# Altium integrated library Microchip PIC18.IntLib: 1897 symbols (part 101 of 110)
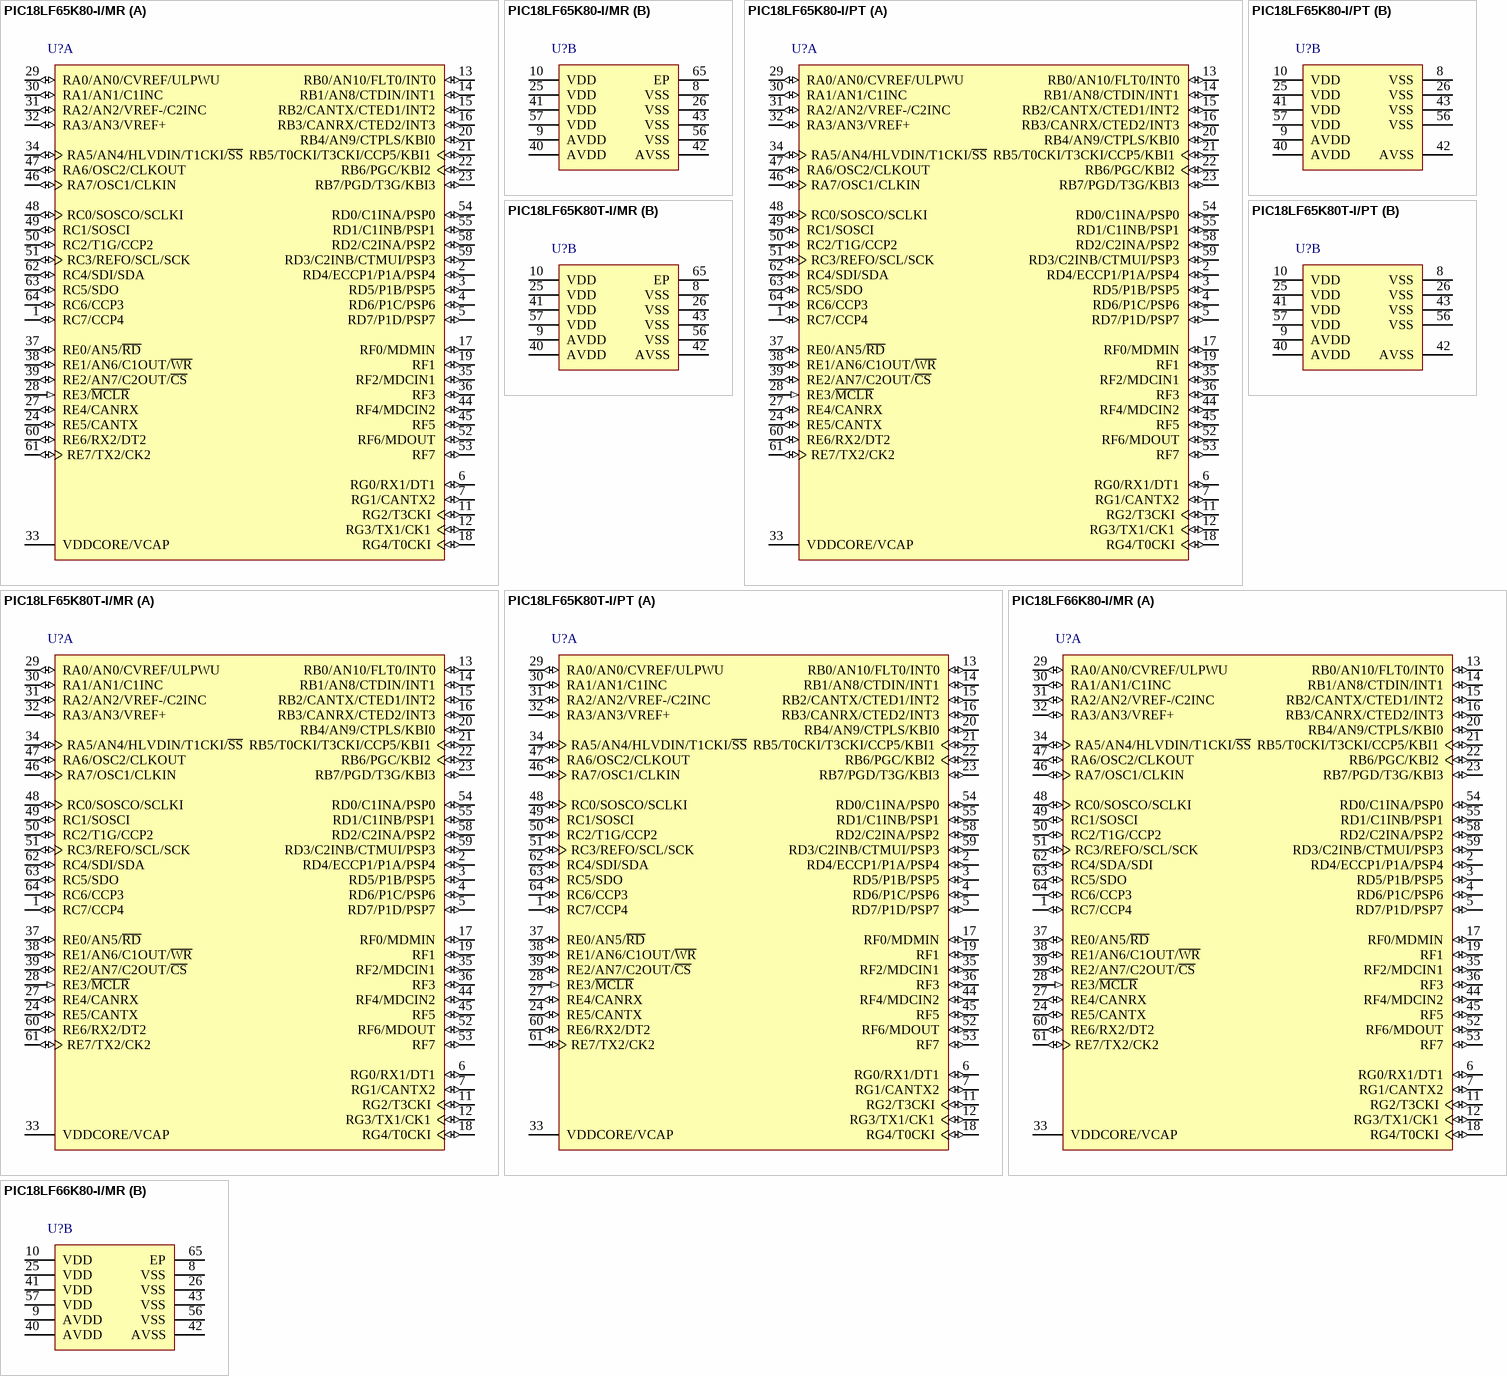
[diagram p273: symbols PIC18LF65K80-I/MR to PIC18LF66K80-I/MR]

## PIC18LF65K80-I/MR
designator U?
Enhanced Flash Microcontroller with ECAN(TM) and nanoWatt XLP Technology, 64 MHz, 54 I/O, -40 to 85 degC, 64-pin QFN (MR64), Tube; Manufacturer: Microchip; PartNumber: PIC18LF65K80-I/MR; # of A/D Channels: 11; Digital Communication: 2 -A/E/USART, 0 -MSSP(SPI/I2C), 1 -SSP(SPI/I2C); EEPROM Data Memory (bytes): 1024; I/O Pins: 54; Internal Oscillator: 16 MHz, 31 kHz; Max. CPU Speed MHz: 64; Operation Voltage Range: 1.8V - 3.6V; Program Memory KBytes: 32; Program Memory KWords: 16; RAM: 3648; Timers: 2 - 8-bit, 3 - 16-bit; DatasheetVersion: Rev. A; PackageVersion: C04-213A, 04/2013; PackageReference: QFN-MR64; PackageDescription: 64-Lead Plastic Quad Flat, No Lead Package, Body 9 x 9 mm, Pitch 0.5 mm; Supplier 1: Digi-Key; Supplier Part Number 1: PIC18LF65K80-I/MR-ND; Supplier 2: Farnell; Supplier Part Number 2: 1823195; Supplier 3: Newark; Supplier Part Number 3: 24W6631; Supplier 4: Mouser; Supplier Part Number 4: 579-PIC18LF65K80I/MR; Memory Type: Flash; Packing: TUBE; Mounting Technology: Surface Mount; ComponentLink1Description: Datasheet; ComponentLink1URL: http://ww1.microchip.com/downloads/en/DeviceDoc/39977f.pdf; ComponentLink2Description: Package Specification; ComponentLink2URL: http://www.microchip.com/stellent/groups/techpub_sg/documents/packagingspec/en012702.pdf; ComponentLink3Description: URL Link1; ComponentLink3URL: Product URL:http://www.microchip.com/datasheet/PIC18F65K80
footprint MCHP-QFN-MR64-7700X7700TP_N (QFN, 64-Leads, Body 9x9mm, Pitch 0.5mm, Thermal Pad 7.7x7.7mm, IPC Medium Density)
footprint MCHP-QFN-MR64-7700X7700TP_L (QFN, 64-Leads, Body 9x9mm, Pitch 0.5mm, Thermal Pad 7.7x7.7mm, IPC High Density)
footprint MCHP-QFN-MR64-7700X7700TP_M (QFN, 64-Leads, Body 9x9mm, Pitch 0.5mm, Thermal Pad 7.7x7.7mm, IPC Low Density)
part A pins: 1 RC7/CCP4 (io), 2 RD4/ECCP1/P1A/PSP4 (io), 3 RD5/P1B/PSP5 (io), 4 RD6/P1C/PSP6 (io), 5 RD7/P1D/PSP7 (io), 6 RG0/RX1/DT1 (io), 7 RG1/CANTX2 (io), 11 RG2/T3CKI (io), 12 RG3/TX1/CK1 (io), 13 RB0/AN10/FLT0/INT0 (io), 14 RB1/AN8/CTDIN/INT1 (io), 15 RB2/CANTX/CTED1/INT2 (io), 16 RB3/CANRX/CTED2/INT3 (io), 17 RF0/MDMIN (io), 18 RG4/T0CKI (io), 19 RF1 (io) "PORTF is a bidirectional I/O port. Digital I/O.", 20 RB4/AN9/CTPLS/KBI0 (io), 21 RB5/T0CKI/T3CKI/CCP5/KBI1 (io), 22 RB6/PGC/KBI2 (io), 23 RB7/PGD/T3G/KBI3 (io), 24 RE5/CANTX (io), 27 RE4/CANRX (io), 28 RE3/~{MCLR} (in), 29 RA0/AN0/CVREF/ULPWU (io), 30 RA1/AN1/C1INC (io), 31 RA2/AN2/VREF-/C2INC (io), 32 RA3/AN3/VREF+ (io), 33 VDDCORE/VCAP (power), 34 RA5/AN4/HLVDIN/T1CKI/~{SS} (io), 35 RF2/MDCIN1 (io), 36 RF3 (io) "PORTF is a bidirectional I/O port. Digital I/O.", 37 RE0/AN5/~{RD} (io), 38 RE1/AN6/C1OUT/~{WR} (io), 39 RE2/AN7/C2OUT/~{CS} (io), 44 RF4/MDCIN2 (io), 45 RF5 (io) "PORTF is a bidirectional I/O port. Digital I/O.", 46 RA7/OSC1/CLKIN (io), 47 RA6/OSC2/CLKOUT (io), 48 RC0/SOSCO/SCLKI (io), 49 RC1/SOSCI (io), 50 RC2/T1G/CCP2 (io), 51 RC3/REFO/SCL/SCK (io), 52 RF6/MDOUT (io), 53 RF7 (io) "PORTF is a bidirectional I/O port. Digital I/O.", 54 RD0/C1INA/PSP0 (io), 55 RD1/C1INB/PSP1 (io), 58 RD2/C2INA/PSP2 (io), 59 RD3/C2INB/CTMUI/PSP3 (io), 60 RE6/RX2/DT2 (io), 61 RE7/TX2/CK2 (io), 62 RC4/SDI/SDA (io), 63 RC5/SDO (io), 64 RC6/CCP3 (io)
part B pins: 8 VSS (power) "Ground reference for logic and I/O pins.", 9 AVDD (power) "Positive supply for analog modules.", 10 VDD (power) "Positive supply for logic and I/O pins.", 25 VDD (power) "Positive supply for logic and I/O pins.", 26 VSS (power) "Ground reference for logic and I/O pins.", 40 AVDD (power) "Positive supply for analog modules.", 41 VDD (power) "Positive supply for logic and I/O pins.", 42 AVSS (power) "Ground reference for analog modules.", 43 VSS (power) "Ground reference for logic and I/O pins.", 56 VSS (power) "Ground reference for logic and I/O pins.", 57 VDD (power) "Positive supply for logic and I/O pins.", 65 EP (power)

## PIC18LF65K80-I/PT
designator U?
Enhanced Flash Microcontroller with ECAN(TM) and nanoWatt XLP Technology, 64 MHz, 54 I/O, -40 to 85 degC, 64-pin TQFP (PT64), Tray; Manufacturer: Microchip; PartNumber: PIC18LF65K80-I/PT; # of A/D Channels: 11; Digital Communication: 2 -A/E/USART, 0 -MSSP(SPI/I2C), 1 -SSP(SPI/I2C); EEPROM Data Memory (bytes): 1024; I/O Pins: 54; Internal Oscillator: 16 MHz, 31 kHz; Max. CPU Speed MHz: 64; Operation Voltage Range: 1.8V - 3.6V; Program Memory KBytes: 32; Program Memory KWords: 16; RAM: 3648; Timers: 2 - 8-bit, 3 - 16-bit; DatasheetVersion: Rev. A; PackageVersion: C04-085B, 12/2012; PackageReference: TQFP-PT64; PackageDescription: 64-Lead Plastic Thin Quad FlatPack, 10 x 10 mm Body, 0.5 mm Pitch; Supplier 1: Digi-Key; Supplier Part Number 1: PIC18LF65K80-I/PT-ND; Supplier 2: Mouser; Supplier Part Number 2: 579-PIC18LF65K80I/PT; Memory Type: Flash; Packing: TRAY; Mounting Technology: Surface Mount; ComponentLink1Description: Datasheet; ComponentLink1URL: http://ww1.microchip.com/downloads/en/DeviceDoc/39977f.pdf; ComponentLink2Description: Package Specification; ComponentLink2URL: http://www.microchip.com/stellent/groups/techpub_sg/documents/packagingspec/en012702.pdf; ComponentLink3Description: URL Link1; ComponentLink3URL: Product URL:http://www.microchip.com/datasheet/PIC18F65K80
footprint MCHP-TQFP-PT64_N (TQFP, 64-Leads, Body 10x10mm, Pitch 0.5mm, IPC Medium Density)
footprint MCHP-TQFP-PT64_L (TQFP, 64-Leads, Body 10x10mm, Pitch 0.5mm, IPC High Density)
footprint MCHP-TQFP-PT64_M (TQFP, 64-Leads, Body 10x10mm, Pitch 0.5mm, IPC Low Density)
part A pins: 1 RC7/CCP4 (io), 2 RD4/ECCP1/P1A/PSP4 (io), 3 RD5/P1B/PSP5 (io), 4 RD6/P1C/PSP6 (io), 5 RD7/P1D/PSP7 (io), 6 RG0/RX1/DT1 (io), 7 RG1/CANTX2 (io), 11 RG2/T3CKI (io), 12 RG3/TX1/CK1 (io), 13 RB0/AN10/FLT0/INT0 (io), 14 RB1/AN8/CTDIN/INT1 (io), 15 RB2/CANTX/CTED1/INT2 (io), 16 RB3/CANRX/CTED2/INT3 (io), 17 RF0/MDMIN (io), 18 RG4/T0CKI (io), 19 RF1 (io) "PORTF is a bidirectional I/O port. Digital I/O.", 20 RB4/AN9/CTPLS/KBI0 (io), 21 RB5/T0CKI/T3CKI/CCP5/KBI1 (io), 22 RB6/PGC/KBI2 (io), 23 RB7/PGD/T3G/KBI3 (io), 24 RE5/CANTX (io), 27 RE4/CANRX (io), 28 RE3/~{MCLR} (in), 29 RA0/AN0/CVREF/ULPWU (io), 30 RA1/AN1/C1INC (io), 31 RA2/AN2/VREF-/C2INC (io), 32 RA3/AN3/VREF+ (io), 33 VDDCORE/VCAP (power), 34 RA5/AN4/HLVDIN/T1CKI/~{SS} (io), 35 RF2/MDCIN1 (io), 36 RF3 (io) "PORTF is a bidirectional I/O port. Digital I/O.", 37 RE0/AN5/~{RD} (io), 38 RE1/AN6/C1OUT/~{WR} (io), 39 RE2/AN7/C2OUT/~{CS} (io), 44 RF4/MDCIN2 (io), 45 RF5 (io) "PORTF is a bidirectional I/O port. Digital I/O.", 46 RA7/OSC1/CLKIN (io), 47 RA6/OSC2/CLKOUT (io), 48 RC0/SOSCO/SCLKI (io), 49 RC1/SOSCI (io), 50 RC2/T1G/CCP2 (io), 51 RC3/REFO/SCL/SCK (io), 52 RF6/MDOUT (io), 53 RF7 (io) "PORTF is a bidirectional I/O port. Digital I/O.", 54 RD0/C1INA/PSP0 (io), 55 RD1/C1INB/PSP1 (io), 58 RD2/C2INA/PSP2 (io), 59 RD3/C2INB/CTMUI/PSP3 (io), 60 RE6/RX2/DT2 (io), 61 RE7/TX2/CK2 (io), 62 RC4/SDI/SDA (io), 63 RC5/SDO (io), 64 RC6/CCP3 (io)
part B pins: 8 VSS (power) "Ground reference for logic and I/O pins.", 9 AVDD (power) "Positive supply for analog modules.", 10 VDD (power) "Positive supply for logic and I/O pins.", 25 VDD (power) "Positive supply for logic and I/O pins.", 26 VSS (power) "Ground reference for logic and I/O pins.", 40 AVDD (power) "Positive supply for analog modules.", 41 VDD (power) "Positive supply for logic and I/O pins.", 42 AVSS (power) "Ground reference for analog modules.", 43 VSS (power) "Ground reference for logic and I/O pins.", 56 VSS (power) "Ground reference for logic and I/O pins.", 57 VDD (power) "Positive supply for logic and I/O pins."

## PIC18LF65K80T-I/MR
designator U?
Enhanced Flash Microcontroller with ECAN(TM) and nanoWatt XLP Technology, 64 MHz, 54 I/O, -40 to 85 degC, 64-pin QFN (MR64), Tape and Reel; Manufacturer: Microchip; PartNumber: PIC18LF65K80T-I/MR; # of A/D Channels: 11; Digital Communication: 2 -A/E/USART, 0 -MSSP(SPI/I2C), 1 -SSP(SPI/I2C); EEPROM Data Memory (bytes): 1024; I/O Pins: 54; Internal Oscillator: 16 MHz, 31 kHz; Max. CPU Speed MHz: 64; Operation Voltage Range: 1.8V - 3.6V; Packing: T/R; Program Memory KBytes: 32; Program Memory KWords: 16; RAM: 3648; Timers: 2 - 8-bit, 3 - 16-bit; DatasheetVersion: Rev. A; PackageVersion: C04-149C, 12/2012; PackageReference: QFN-MR64; PackageDescription: 64-Lead Plastic Quad Flat, 9 x 9 mm Body, 0.5 mm Pitch; Supplier 1: Digi-Key; Supplier Part Number 1: PIC18LF65K80T-I/MR-ND; Supplier 2: Mouser; Supplier Part Number 2: 579-PIC18LF65K80TIMR; Memory Type: Flash; Mounting Technology: Surface Mount; ComponentLink1Description: Datasheet; ComponentLink1URL: http://ww1.microchip.com/downloads/en/DeviceDoc/39977f.pdf; ComponentLink2Description: Package Specification; ComponentLink2URL: http://www.microchip.com/stellent/groups/techpub_sg/documents/packagingspec/en012702.pdf; ComponentLink3Description: URL Link1; ComponentLink3URL: Product URL:http://www.microchip.com/datasheet/PIC18F65K80
footprint MCHP-QFN-MR64-7275X7275TP_N (QFN, 64-Leads, Body 9x9mm, Pitch 0.5mm, Thermal Pad 7.275x7.275mm, IPC Medium Density)
footprint MCHP-QFN-MR64-7275X7275TP_L (QFN, 64-Leads, Body 9x9mm, Pitch 0.5mm, Thermal Pad 7.275x7.275mm, IPC High Density)
footprint MCHP-QFN-MR64-7275X7275TP_M (QFN, 64-Leads, Body 9x9mm, Pitch 0.5mm, Thermal Pad 7.275x7.275mm, IPC Low Density)
part A pins: 1 RC7/CCP4 (io), 2 RD4/ECCP1/P1A/PSP4 (io), 3 RD5/P1B/PSP5 (io), 4 RD6/P1C/PSP6 (io), 5 RD7/P1D/PSP7 (io), 6 RG0/RX1/DT1 (io), 7 RG1/CANTX2 (io), 11 RG2/T3CKI (io), 12 RG3/TX1/CK1 (io), 13 RB0/AN10/FLT0/INT0 (io), 14 RB1/AN8/CTDIN/INT1 (io), 15 RB2/CANTX/CTED1/INT2 (io), 16 RB3/CANRX/CTED2/INT3 (io), 17 RF0/MDMIN (io), 18 RG4/T0CKI (io), 19 RF1 (io) "PORTF is a bidirectional I/O port. Digital I/O.", 20 RB4/AN9/CTPLS/KBI0 (io), 21 RB5/T0CKI/T3CKI/CCP5/KBI1 (io), 22 RB6/PGC/KBI2 (io), 23 RB7/PGD/T3G/KBI3 (io), 24 RE5/CANTX (io), 27 RE4/CANRX (io), 28 RE3/~{MCLR} (in), 29 RA0/AN0/CVREF/ULPWU (io), 30 RA1/AN1/C1INC (io), 31 RA2/AN2/VREF-/C2INC (io), 32 RA3/AN3/VREF+ (io), 33 VDDCORE/VCAP (power), 34 RA5/AN4/HLVDIN/T1CKI/~{SS} (io), 35 RF2/MDCIN1 (io), 36 RF3 (io) "PORTF is a bidirectional I/O port. Digital I/O.", 37 RE0/AN5/~{RD} (io), 38 RE1/AN6/C1OUT/~{WR} (io), 39 RE2/AN7/C2OUT/~{CS} (io), 44 RF4/MDCIN2 (io), 45 RF5 (io) "PORTF is a bidirectional I/O port. Digital I/O.", 46 RA7/OSC1/CLKIN (io), 47 RA6/OSC2/CLKOUT (io), 48 RC0/SOSCO/SCLKI (io), 49 RC1/SOSCI (io), 50 RC2/T1G/CCP2 (io), 51 RC3/REFO/SCL/SCK (io), 52 RF6/MDOUT (io), 53 RF7 (io) "PORTF is a bidirectional I/O port. Digital I/O.", 54 RD0/C1INA/PSP0 (io), 55 RD1/C1INB/PSP1 (io), 58 RD2/C2INA/PSP2 (io), 59 RD3/C2INB/CTMUI/PSP3 (io), 60 RE6/RX2/DT2 (io), 61 RE7/TX2/CK2 (io), 62 RC4/SDI/SDA (io), 63 RC5/SDO (io), 64 RC6/CCP3 (io)
part B pins: 8 VSS (power) "Ground reference for logic and I/O pins.", 9 AVDD (power) "Positive supply for analog modules.", 10 VDD (power) "Positive supply for logic and I/O pins.", 25 VDD (power) "Positive supply for logic and I/O pins.", 26 VSS (power) "Ground reference for logic and I/O pins.", 40 AVDD (power) "Positive supply for analog modules.", 41 VDD (power) "Positive supply for logic and I/O pins.", 42 AVSS (power) "Ground reference for analog modules.", 43 VSS (power) "Ground reference for logic and I/O pins.", 56 VSS (power) "Ground reference for logic and I/O pins.", 57 VDD (power) "Positive supply for logic and I/O pins.", 65 EP (power)

## PIC18LF65K80T-I/PT
designator U?
Enhanced Flash Microcontroller with ECAN(TM) and nanoWatt XLP Technology, 64 MHz, 54 I/O, -40 to 85 degC, 64-pin TQFP (PT64), Tape and Reel; Manufacturer: Microchip; PartNumber: PIC18LF65K80T-I/PT; # of A/D Channels: 11; Digital Communication: 2 -A/E/USART, 0 -MSSP(SPI/I2C), 1 -SSP(SPI/I2C); EEPROM Data Memory (bytes): 1024; I/O Pins: 54; Internal Oscillator: 16 MHz, 31 kHz; Max. CPU Speed MHz: 64; Operation Voltage Range: 1.8V - 3.6V; Packing: T/R; Program Memory KBytes: 32; Program Memory KWords: 16; RAM: 3648; Timers: 2 - 8-bit, 3 - 16-bit; DatasheetVersion: Rev. A; PackageVersion: C04-085B, 12/2012; PackageReference: TQFP-PT64; PackageDescription: 64-Lead Plastic Thin Quad FlatPack, 10 x 10 mm Body, 0.5 mm Pitch; Supplier 1: Digi-Key; Supplier Part Number 1: PIC18LF65K80T-I/PT-ND; Supplier 2: Mouser; Supplier Part Number 2: 579-PIC18LF65K80TIPT; Memory Type: Flash; Mounting Technology: Surface Mount; ComponentLink1Description: Datasheet; ComponentLink1URL: http://ww1.microchip.com/downloads/en/DeviceDoc/39977f.pdf; ComponentLink2Description: Package Specification; ComponentLink2URL: http://www.microchip.com/stellent/groups/techpub_sg/documents/packagingspec/en012702.pdf; ComponentLink3Description: URL Link1; ComponentLink3URL: Product URL:http://www.microchip.com/datasheet/PIC18F65K80
footprint MCHP-TQFP-PT64_N (TQFP, 64-Leads, Body 10x10mm, Pitch 0.5mm, IPC Medium Density)
footprint MCHP-TQFP-PT64_L (TQFP, 64-Leads, Body 10x10mm, Pitch 0.5mm, IPC High Density)
footprint MCHP-TQFP-PT64_M (TQFP, 64-Leads, Body 10x10mm, Pitch 0.5mm, IPC Low Density)
part A pins: 1 RC7/CCP4 (io), 2 RD4/ECCP1/P1A/PSP4 (io), 3 RD5/P1B/PSP5 (io), 4 RD6/P1C/PSP6 (io), 5 RD7/P1D/PSP7 (io), 6 RG0/RX1/DT1 (io), 7 RG1/CANTX2 (io), 11 RG2/T3CKI (io), 12 RG3/TX1/CK1 (io), 13 RB0/AN10/FLT0/INT0 (io), 14 RB1/AN8/CTDIN/INT1 (io), 15 RB2/CANTX/CTED1/INT2 (io), 16 RB3/CANRX/CTED2/INT3 (io), 17 RF0/MDMIN (io), 18 RG4/T0CKI (io), 19 RF1 (io) "PORTF is a bidirectional I/O port. Digital I/O.", 20 RB4/AN9/CTPLS/KBI0 (io), 21 RB5/T0CKI/T3CKI/CCP5/KBI1 (io), 22 RB6/PGC/KBI2 (io), 23 RB7/PGD/T3G/KBI3 (io), 24 RE5/CANTX (io), 27 RE4/CANRX (io), 28 RE3/~{MCLR} (in), 29 RA0/AN0/CVREF/ULPWU (io), 30 RA1/AN1/C1INC (io), 31 RA2/AN2/VREF-/C2INC (io), 32 RA3/AN3/VREF+ (io), 33 VDDCORE/VCAP (power), 34 RA5/AN4/HLVDIN/T1CKI/~{SS} (io), 35 RF2/MDCIN1 (io), 36 RF3 (io) "PORTF is a bidirectional I/O port. Digital I/O.", 37 RE0/AN5/~{RD} (io), 38 RE1/AN6/C1OUT/~{WR} (io), 39 RE2/AN7/C2OUT/~{CS} (io), 44 RF4/MDCIN2 (io), 45 RF5 (io) "PORTF is a bidirectional I/O port. Digital I/O.", 46 RA7/OSC1/CLKIN (io), 47 RA6/OSC2/CLKOUT (io), 48 RC0/SOSCO/SCLKI (io), 49 RC1/SOSCI (io), 50 RC2/T1G/CCP2 (io), 51 RC3/REFO/SCL/SCK (io), 52 RF6/MDOUT (io), 53 RF7 (io) "PORTF is a bidirectional I/O port. Digital I/O.", 54 RD0/C1INA/PSP0 (io), 55 RD1/C1INB/PSP1 (io), 58 RD2/C2INA/PSP2 (io), 59 RD3/C2INB/CTMUI/PSP3 (io), 60 RE6/RX2/DT2 (io), 61 RE7/TX2/CK2 (io), 62 RC4/SDI/SDA (io), 63 RC5/SDO (io), 64 RC6/CCP3 (io)
part B pins: 8 VSS (power) "Ground reference for logic and I/O pins.", 9 AVDD (power) "Positive supply for analog modules.", 10 VDD (power) "Positive supply for logic and I/O pins.", 25 VDD (power) "Positive supply for logic and I/O pins.", 26 VSS (power) "Ground reference for logic and I/O pins.", 40 AVDD (power) "Positive supply for analog modules.", 41 VDD (power) "Positive supply for logic and I/O pins.", 42 AVSS (power) "Ground reference for analog modules.", 43 VSS (power) "Ground reference for logic and I/O pins.", 56 VSS (power) "Ground reference for logic and I/O pins.", 57 VDD (power) "Positive supply for logic and I/O pins."

## PIC18LF66K80-I/MR
designator U?
Enhanced Flash Microcontroller with ECAN(TM) and nanoWatt XLP Technology, 64 MHz, 54 I/O, -40 to 85 degC, 64-pin QFN (MR64), Tube; Manufacturer: Microchip; PartNumber: PIC18LF66K80-I/MR; # of A/D Channels: 11; Digital Communication: 2 -A/E/USART, 1 -MSSP(SPI/I2C); EEPROM Data Memory (bytes): 1024; I/O Pins: 54; Internal Oscillator: 16 MHz, 31 kHz; Max. CPU Speed MHz: 64; Operation Voltage Range: 1.8V - 3.6V; Program Memory KWords: 32; RAM: 3648; Timers: 2 - 8-bit, 3 - 16-bit; DatasheetVersion: Rev. F; PackageVersion: C04-149C, 12/2012; PackageReference: QFN-MR64; PackageDescription: 64-Lead Plastic Quad Flat, 9 x 9 mm Body, 0.5 mm Pitch; Supplier 1: Digi-Key; Supplier Part Number 1: PIC18LF66K80-I/MR-ND; Supplier 2: Farnell; Supplier Part Number 2: 1823197; Supplier 3: Newark; Supplier Part Number 3: 24W6632; Supplier 4: Newark; Supplier Part Number 4: 76R6747; Supplier 5: Mouser; Supplier Part Number 5: 579-PIC18LF66K80I/MR; Memory Type: Flash; Packing: TUBE; Program Memory KBytes: 64; Mounting Technology: Surface Mount; ComponentLink1Description: Datasheet; ComponentLink1URL: http://ww1.microchip.com/downloads/en/DeviceDoc/39977f.pdf; ComponentLink2Description: Package Specification; ComponentLink2URL: http://www.microchip.com/stellent/groups/techpub_sg/documents/packagingspec/en012702.pdf; ComponentLink3Description: URL Link1; ComponentLink3URL: Product URL:http://www.microchip.com/datasheet/PIC18F66K80
footprint MCHP-QFN-MR64-7275X7275TP_N (QFN, 64-Leads, Body 9x9mm, Pitch 0.5mm, Thermal Pad 7.275x7.275mm, IPC Medium Density)
footprint MCHP-QFN-MR64-7275X7275TP_L (QFN, 64-Leads, Body 9x9mm, Pitch 0.5mm, Thermal Pad 7.275x7.275mm, IPC High Density)
footprint MCHP-QFN-MR64-7275X7275TP_M (QFN, 64-Leads, Body 9x9mm, Pitch 0.5mm, Thermal Pad 7.275x7.275mm, IPC Low Density)
part A pins: 1 RC7/CCP4 (io), 2 RD4/ECCP1/P1A/PSP4 (io), 3 RD5/P1B/PSP5 (io), 4 RD6/P1C/PSP6 (io), 5 RD7/P1D/PSP7 (io), 6 RG0/RX1/DT1 (io), 7 RG1/CANTX2 (io), 11 RG2/T3CKI (io), 12 RG3/TX1/CK1 (io), 13 RB0/AN10/FLT0/INT0 (io), 14 RB1/AN8/CTDIN/INT1 (io), 15 RB2/CANTX/CTED1/INT2 (io), 16 RB3/CANRX/CTED2/INT3 (io), 17 RF0/MDMIN (io), 18 RG4/T0CKI (io), 19 RF1 (io) "PORTF is a bidirectional I/O port. Digital I/O.", 20 RB4/AN9/CTPLS/KBI0 (io), 21 RB5/T0CKI/T3CKI/CCP5/KBI1 (io), 22 RB6/PGC/KBI2 (io), 23 RB7/PGD/T3G/KBI3 (io), 24 RE5/CANTX (io), 27 RE4/CANRX (io), 28 RE3/~{MCLR} (in), 29 RA0/AN0/CVREF/ULPWU (io), 30 RA1/AN1/C1INC (io), 31 RA2/AN2/VREF-/C2INC (io), 32 RA3/AN3/VREF+ (io), 33 VDDCORE/VCAP (power), 34 RA5/AN4/HLVDIN/T1CKI/~{SS} (io), 35 RF2/MDCIN1 (io), 36 RF3 (io) "PORTF is a bidirectional I/O port. Digital I/O.", 37 RE0/AN5/~{RD} (io), 38 RE1/AN6/C1OUT/~{WR} (io), 39 RE2/AN7/C2OUT/~{CS} (io), 44 RF4/MDCIN2 (io), 45 RF5 (io) "PORTF is a bidirectional I/O port. Digital I/O.", 46 RA7/OSC1/CLKIN (io), 47 RA6/OSC2/CLKOUT (io), 48 RC0/SOSCO/SCLKI (io), 49 RC1/SOSCI (io), 50 RC2/T1G/CCP2 (io), 51 RC3/REFO/SCL/SCK (io), 52 RF6/MDOUT (io), 53 RF7 (io) "PORTF is a bidirectional I/O port. Digital I/O.", 54 RD0/C1INA/PSP0 (io), 55 RD1/C1INB/PSP1 (io), 58 RD2/C2INA/PSP2 (io), 59 RD3/C2INB/CTMUI/PSP3 (io), 60 RE6/RX2/DT2 (io), 61 RE7/TX2/CK2 (io), 62 RC4/SDA/SDI (io), 63 RC5/SDO (io), 64 RC6/CCP3 (io)
part B pins: 8 VSS (power) "Ground reference for logic and I/O pins.", 9 AVDD (power) "Positive supply for analog modules.", 10 VDD (power) "Positive supply for logic and I/O pins.", 25 VDD (power) "Positive supply for logic and I/O pins.", 26 VSS (power) "Ground reference for logic and I/O pins.", 40 AVDD (power) "Positive supply for analog modules.", 41 VDD (power) "Positive supply for logic and I/O pins.", 42 AVSS (power) "Ground reference for analog modules.", 43 VSS (power) "Ground reference for logic and I/O pins.", 56 VSS (power) "Ground reference for logic and I/O pins.", 57 VDD (power) "Positive supply for logic and I/O pins.", 65 EP (power)

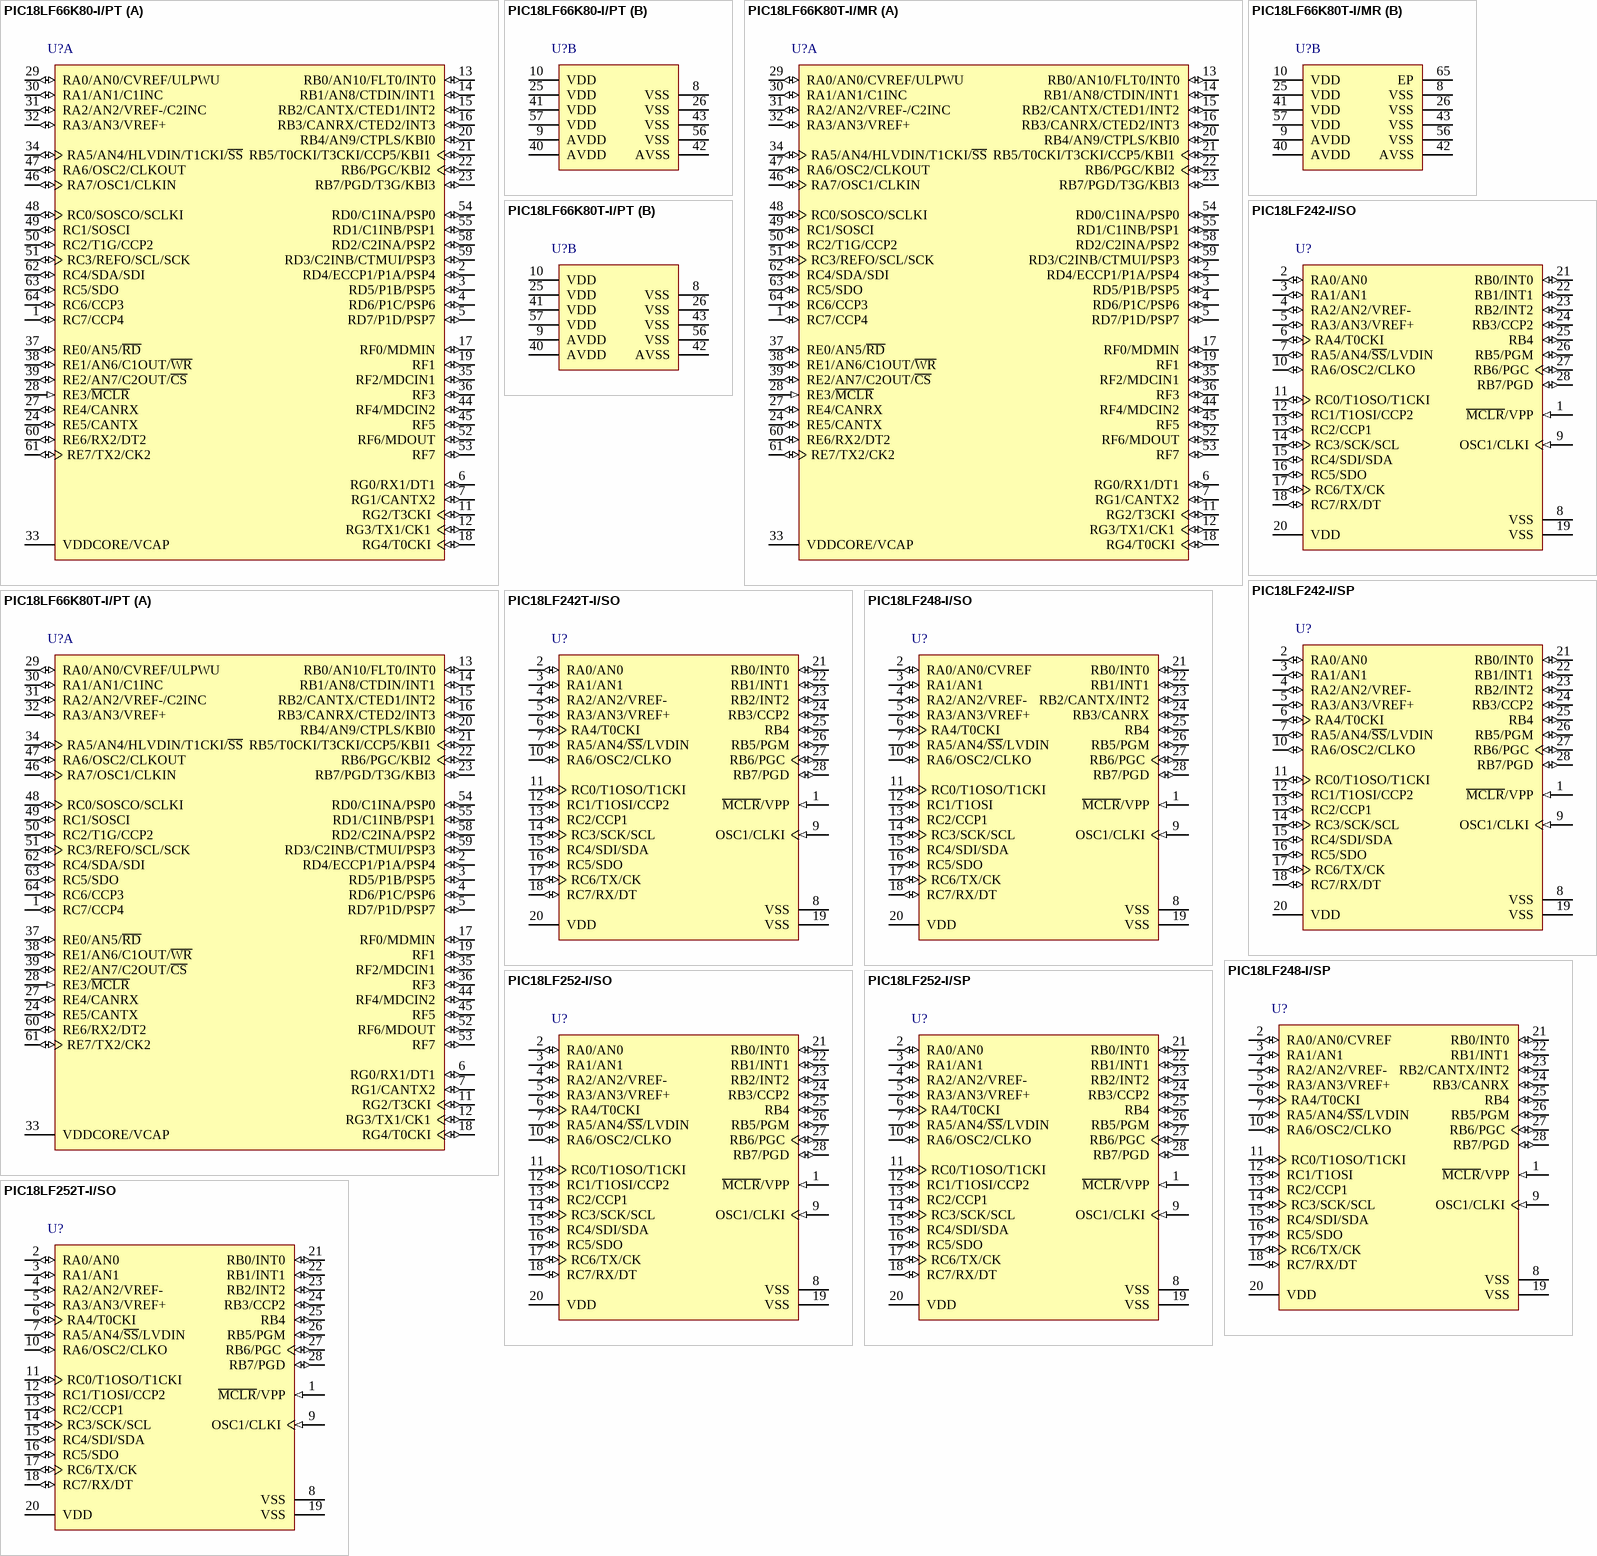
[diagram p184: symbols PIC18LF66K80-I/PT to PIC18LF252T-I/SO]

## PIC18LF66K80-I/PT
designator U?
Enhanced Flash Microcontroller with ECAN(TM) and nanoWatt XLP Technology, 64 MHz, 54 I/O, -40 to 85 degC, 64-pin TQFP (PT64), Tray; Manufacturer: Microchip; PartNumber: PIC18LF66K80-I/PT; # of A/D Channels: 11; Digital Communication: 2 -A/E/USART, 1 -MSSP(SPI/I2C); EEPROM Data Memory (bytes): 1024; I/O Pins: 54; Internal Oscillator: 16 MHz, 31 kHz; Max. CPU Speed MHz: 64; Operation Voltage Range: 1.8V - 3.6V; Program Memory KWords: 32; RAM: 3648; Timers: 2 - 8-bit, 3 - 16-bit; DatasheetVersion: Rev. F; PackageVersion: C04-085B, 12/2012; PackageReference: TQFP-PT64; PackageDescription: 64-Lead Plastic Thin Quad FlatPack, 10 x 10 mm Body, 0.5 mm Pitch; Supplier 1: Digi-Key; Supplier Part Number 1: PIC18LF66K80-I/PT-ND; Supplier 2: Farnell; Supplier Part Number 2: 1823198; Supplier 3: Mouser; Supplier Part Number 3: 579-PIC18LF66K80I/PT; Memory Type: Flash; Packing: TRAY; Program Memory KBytes: 64; Mounting Technology: Surface Mount; ComponentLink1Description: Datasheet; ComponentLink1URL: http://ww1.microchip.com/downloads/en/DeviceDoc/39977f.pdf; ComponentLink2Description: Package Specification; ComponentLink2URL: http://www.microchip.com/stellent/groups/techpub_sg/documents/packagingspec/en012702.pdf; ComponentLink3Description: URL Link1; ComponentLink3URL: Product URL:http://www.microchip.com/datasheet/PIC18F66K80
footprint MCHP-TQFP-PT64_N (TQFP, 64-Leads, Body 10x10mm, Pitch 0.5mm, IPC Medium Density)
footprint MCHP-TQFP-PT64_L (TQFP, 64-Leads, Body 10x10mm, Pitch 0.5mm, IPC High Density)
footprint MCHP-TQFP-PT64_M (TQFP, 64-Leads, Body 10x10mm, Pitch 0.5mm, IPC Low Density)
part A pins: 1 RC7/CCP4 (io), 2 RD4/ECCP1/P1A/PSP4 (io), 3 RD5/P1B/PSP5 (io), 4 RD6/P1C/PSP6 (io), 5 RD7/P1D/PSP7 (io), 6 RG0/RX1/DT1 (io), 7 RG1/CANTX2 (io), 11 RG2/T3CKI (io), 12 RG3/TX1/CK1 (io), 13 RB0/AN10/FLT0/INT0 (io), 14 RB1/AN8/CTDIN/INT1 (io), 15 RB2/CANTX/CTED1/INT2 (io), 16 RB3/CANRX/CTED2/INT3 (io), 17 RF0/MDMIN (io), 18 RG4/T0CKI (io), 19 RF1 (io) "PORTF is a bidirectional I/O port. Digital I/O.", 20 RB4/AN9/CTPLS/KBI0 (io), 21 RB5/T0CKI/T3CKI/CCP5/KBI1 (io), 22 RB6/PGC/KBI2 (io), 23 RB7/PGD/T3G/KBI3 (io), 24 RE5/CANTX (io), 27 RE4/CANRX (io), 28 RE3/~{MCLR} (in), 29 RA0/AN0/CVREF/ULPWU (io), 30 RA1/AN1/C1INC (io), 31 RA2/AN2/VREF-/C2INC (io), 32 RA3/AN3/VREF+ (io), 33 VDDCORE/VCAP (power), 34 RA5/AN4/HLVDIN/T1CKI/~{SS} (io), 35 RF2/MDCIN1 (io), 36 RF3 (io) "PORTF is a bidirectional I/O port. Digital I/O.", 37 RE0/AN5/~{RD} (io), 38 RE1/AN6/C1OUT/~{WR} (io), 39 RE2/AN7/C2OUT/~{CS} (io), 44 RF4/MDCIN2 (io), 45 RF5 (io) "PORTF is a bidirectional I/O port. Digital I/O.", 46 RA7/OSC1/CLKIN (io), 47 RA6/OSC2/CLKOUT (io), 48 RC0/SOSCO/SCLKI (io), 49 RC1/SOSCI (io), 50 RC2/T1G/CCP2 (io), 51 RC3/REFO/SCL/SCK (io), 52 RF6/MDOUT (io), 53 RF7 (io) "PORTF is a bidirectional I/O port. Digital I/O.", 54 RD0/C1INA/PSP0 (io), 55 RD1/C1INB/PSP1 (io), 58 RD2/C2INA/PSP2 (io), 59 RD3/C2INB/CTMUI/PSP3 (io), 60 RE6/RX2/DT2 (io), 61 RE7/TX2/CK2 (io), 62 RC4/SDA/SDI (io), 63 RC5/SDO (io), 64 RC6/CCP3 (io)
part B pins: 8 VSS (power) "Ground reference for logic and I/O pins.", 9 AVDD (power) "Positive supply for analog modules.", 10 VDD (power) "Positive supply for logic and I/O pins.", 25 VDD (power) "Positive supply for logic and I/O pins.", 26 VSS (power) "Ground reference for logic and I/O pins.", 40 AVDD (power) "Positive supply for analog modules.", 41 VDD (power) "Positive supply for logic and I/O pins.", 42 AVSS (power) "Ground reference for analog modules.", 43 VSS (power) "Ground reference for logic and I/O pins.", 56 VSS (power) "Ground reference for logic and I/O pins.", 57 VDD (power) "Positive supply for logic and I/O pins."

## PIC18LF66K80T-I/MR
designator U?
Enhanced Flash Microcontroller with ECAN(TM) and nanoWatt XLP Technology, 64 MHz, 54 I/O, -40 to 85 degC, 64-pin QFN (MR64), Tape and Reel; Manufacturer: Microchip; PartNumber: PIC18LF66K80T-I/MR; # of A/D Channels: 11; Digital Communication: 2 -A/E/USART, 1 -MSSP(SPI/I2C); EEPROM Data Memory (bytes): 1024; I/O Pins: 54; Internal Oscillator: 16 MHz, 31 kHz; Max. CPU Speed MHz: 64; Operation Voltage Range: 1.8V - 3.6V; Packing: T/R; Program Memory KWords: 32; RAM: 3648; Timers: 2 - 8-bit, 3 - 16-bit; DatasheetVersion: Rev. F; PackageVersion: C04-149C, 12/2012; PackageReference: QFN-MR64; PackageDescription: 64-Lead Plastic Quad Flat, 9 x 9 mm Body, 0.5 mm Pitch; Supplier 1: Digi-Key; Supplier Part Number 1: PIC18LF66K80T-I/MR-ND; Supplier 2: Mouser; Supplier Part Number 2: 579-PIC18LF66K80TIMR; Memory Type: Flash; Program Memory KBytes: 64; Mounting Technology: Surface Mount; ComponentLink1Description: Datasheet; ComponentLink1URL: http://ww1.microchip.com/downloads/en/DeviceDoc/39977f.pdf; ComponentLink2Description: Package Specification; ComponentLink2URL: http://www.microchip.com/stellent/groups/techpub_sg/documents/packagingspec/en012702.pdf; ComponentLink3Description: URL Link1; ComponentLink3URL: Product URL:http://www.microchip.com/datasheet/PIC18F66K80
footprint MCHP-QFN-MR64-7275X7275TP_N (QFN, 64-Leads, Body 9x9mm, Pitch 0.5mm, Thermal Pad 7.275x7.275mm, IPC Medium Density)
footprint MCHP-QFN-MR64-7275X7275TP_L (QFN, 64-Leads, Body 9x9mm, Pitch 0.5mm, Thermal Pad 7.275x7.275mm, IPC High Density)
footprint MCHP-QFN-MR64-7275X7275TP_M (QFN, 64-Leads, Body 9x9mm, Pitch 0.5mm, Thermal Pad 7.275x7.275mm, IPC Low Density)
part A pins: 1 RC7/CCP4 (io), 2 RD4/ECCP1/P1A/PSP4 (io), 3 RD5/P1B/PSP5 (io), 4 RD6/P1C/PSP6 (io), 5 RD7/P1D/PSP7 (io), 6 RG0/RX1/DT1 (io), 7 RG1/CANTX2 (io), 11 RG2/T3CKI (io), 12 RG3/TX1/CK1 (io), 13 RB0/AN10/FLT0/INT0 (io), 14 RB1/AN8/CTDIN/INT1 (io), 15 RB2/CANTX/CTED1/INT2 (io), 16 RB3/CANRX/CTED2/INT3 (io), 17 RF0/MDMIN (io), 18 RG4/T0CKI (io), 19 RF1 (io) "PORTF is a bidirectional I/O port. Digital I/O.", 20 RB4/AN9/CTPLS/KBI0 (io), 21 RB5/T0CKI/T3CKI/CCP5/KBI1 (io), 22 RB6/PGC/KBI2 (io), 23 RB7/PGD/T3G/KBI3 (io), 24 RE5/CANTX (io), 27 RE4/CANRX (io), 28 RE3/~{MCLR} (in), 29 RA0/AN0/CVREF/ULPWU (io), 30 RA1/AN1/C1INC (io), 31 RA2/AN2/VREF-/C2INC (io), 32 RA3/AN3/VREF+ (io), 33 VDDCORE/VCAP (power), 34 RA5/AN4/HLVDIN/T1CKI/~{SS} (io), 35 RF2/MDCIN1 (io), 36 RF3 (io) "PORTF is a bidirectional I/O port. Digital I/O.", 37 RE0/AN5/~{RD} (io), 38 RE1/AN6/C1OUT/~{WR} (io), 39 RE2/AN7/C2OUT/~{CS} (io), 44 RF4/MDCIN2 (io), 45 RF5 (io) "PORTF is a bidirectional I/O port. Digital I/O.", 46 RA7/OSC1/CLKIN (io), 47 RA6/OSC2/CLKOUT (io), 48 RC0/SOSCO/SCLKI (io), 49 RC1/SOSCI (io), 50 RC2/T1G/CCP2 (io), 51 RC3/REFO/SCL/SCK (io), 52 RF6/MDOUT (io), 53 RF7 (io) "PORTF is a bidirectional I/O port. Digital I/O.", 54 RD0/C1INA/PSP0 (io), 55 RD1/C1INB/PSP1 (io), 58 RD2/C2INA/PSP2 (io), 59 RD3/C2INB/CTMUI/PSP3 (io), 60 RE6/RX2/DT2 (io), 61 RE7/TX2/CK2 (io), 62 RC4/SDA/SDI (io), 63 RC5/SDO (io), 64 RC6/CCP3 (io)
part B pins: 8 VSS (power) "Ground reference for logic and I/O pins.", 9 AVDD (power) "Positive supply for analog modules.", 10 VDD (power) "Positive supply for logic and I/O pins.", 25 VDD (power) "Positive supply for logic and I/O pins.", 26 VSS (power) "Ground reference for logic and I/O pins.", 40 AVDD (power) "Positive supply for analog modules.", 41 VDD (power) "Positive supply for logic and I/O pins.", 42 AVSS (power) "Ground reference for analog modules.", 43 VSS (power) "Ground reference for logic and I/O pins.", 56 VSS (power) "Ground reference for logic and I/O pins.", 57 VDD (power) "Positive supply for logic and I/O pins.", 65 EP (power)

## PIC18LF66K80T-I/PT
designator U?
Enhanced Flash Microcontroller with ECAN(TM) and nanoWatt XLP Technology, 64 MHz, 54 I/O, -40 to 85 degC, 64-pin TQFP (PT64), Tape and Reel; Manufacturer: Microchip; PartNumber: PIC18LF66K80T-I/PT; # of A/D Channels: 11; Digital Communication: 2 -A/E/USART, 1 -MSSP(SPI/I2C); EEPROM Data Memory (bytes): 1024; I/O Pins: 54; Internal Oscillator: 16 MHz, 31 kHz; Max. CPU Speed MHz: 64; Operation Voltage Range: 1.8V - 3.6V; Packing: T/R; Program Memory KWords: 32; RAM: 3648; Timers: 2 - 8-bit, 3 - 16-bit; DatasheetVersion: Rev. F; PackageVersion: C04-085B, 12/2012; PackageReference: TQFP-PT64; PackageDescription: 64-Lead Plastic Thin Quad FlatPack, 10 x 10 mm Body, 0.5 mm Pitch; Supplier 1: Digi-Key; Supplier Part Number 1: PIC18LF66K80T-I/PT-ND; Supplier 2: Mouser; Supplier Part Number 2: 579-PIC18LF66K80TIPT; Memory Type: Flash; Program Memory KBytes: 64; Mounting Technology: Surface Mount; ComponentLink1Description: Datasheet; ComponentLink1URL: http://ww1.microchip.com/downloads/en/DeviceDoc/39977f.pdf; ComponentLink2Description: Package Specification; ComponentLink2URL: http://www.microchip.com/stellent/groups/techpub_sg/documents/packagingspec/en012702.pdf; ComponentLink3Description: URL Link1; ComponentLink3URL: Product URL:http://www.microchip.com/datasheet/PIC18F66K80
footprint MCHP-TQFP-PT64_N (TQFP, 64-Leads, Body 10x10mm, Pitch 0.5mm, IPC Medium Density)
footprint MCHP-TQFP-PT64_L (TQFP, 64-Leads, Body 10x10mm, Pitch 0.5mm, IPC High Density)
footprint MCHP-TQFP-PT64_M (TQFP, 64-Leads, Body 10x10mm, Pitch 0.5mm, IPC Low Density)
part A pins: 1 RC7/CCP4 (io), 2 RD4/ECCP1/P1A/PSP4 (io), 3 RD5/P1B/PSP5 (io), 4 RD6/P1C/PSP6 (io), 5 RD7/P1D/PSP7 (io), 6 RG0/RX1/DT1 (io), 7 RG1/CANTX2 (io), 11 RG2/T3CKI (io), 12 RG3/TX1/CK1 (io), 13 RB0/AN10/FLT0/INT0 (io), 14 RB1/AN8/CTDIN/INT1 (io), 15 RB2/CANTX/CTED1/INT2 (io), 16 RB3/CANRX/CTED2/INT3 (io), 17 RF0/MDMIN (io), 18 RG4/T0CKI (io), 19 RF1 (io) "PORTF is a bidirectional I/O port. Digital I/O.", 20 RB4/AN9/CTPLS/KBI0 (io), 21 RB5/T0CKI/T3CKI/CCP5/KBI1 (io), 22 RB6/PGC/KBI2 (io), 23 RB7/PGD/T3G/KBI3 (io), 24 RE5/CANTX (io), 27 RE4/CANRX (io), 28 RE3/~{MCLR} (in), 29 RA0/AN0/CVREF/ULPWU (io), 30 RA1/AN1/C1INC (io), 31 RA2/AN2/VREF-/C2INC (io), 32 RA3/AN3/VREF+ (io), 33 VDDCORE/VCAP (power), 34 RA5/AN4/HLVDIN/T1CKI/~{SS} (io), 35 RF2/MDCIN1 (io), 36 RF3 (io) "PORTF is a bidirectional I/O port. Digital I/O.", 37 RE0/AN5/~{RD} (io), 38 RE1/AN6/C1OUT/~{WR} (io), 39 RE2/AN7/C2OUT/~{CS} (io), 44 RF4/MDCIN2 (io), 45 RF5 (io) "PORTF is a bidirectional I/O port. Digital I/O.", 46 RA7/OSC1/CLKIN (io), 47 RA6/OSC2/CLKOUT (io), 48 RC0/SOSCO/SCLKI (io), 49 RC1/SOSCI (io), 50 RC2/T1G/CCP2 (io), 51 RC3/REFO/SCL/SCK (io), 52 RF6/MDOUT (io), 53 RF7 (io) "PORTF is a bidirectional I/O port. Digital I/O.", 54 RD0/C1INA/PSP0 (io), 55 RD1/C1INB/PSP1 (io), 58 RD2/C2INA/PSP2 (io), 59 RD3/C2INB/CTMUI/PSP3 (io), 60 RE6/RX2/DT2 (io), 61 RE7/TX2/CK2 (io), 62 RC4/SDA/SDI (io), 63 RC5/SDO (io), 64 RC6/CCP3 (io)
part B pins: 8 VSS (power) "Ground reference for logic and I/O pins.", 9 AVDD (power) "Positive supply for analog modules.", 10 VDD (power) "Positive supply for logic and I/O pins.", 25 VDD (power) "Positive supply for logic and I/O pins.", 26 VSS (power) "Ground reference for logic and I/O pins.", 40 AVDD (power) "Positive supply for analog modules.", 41 VDD (power) "Positive supply for logic and I/O pins.", 42 AVSS (power) "Ground reference for analog modules.", 43 VSS (power) "Ground reference for logic and I/O pins.", 56 VSS (power) "Ground reference for logic and I/O pins.", 57 VDD (power) "Positive supply for logic and I/O pins."

## PIC18LF242-I/SO
designator U?
High Performance, Enhanced Flash Microcontroller with 10-Bit A/D, 40 MHz, 23 I/O, -40 to 85 degC, 28-pin SOIC (SO28), Tube; Manufacturer: Microchip; PartNumber: PIC18LF242-I/SO; # of A/D Channels: 5; Digital Communication: 0 -UART, 1 -A/E/USART, 0 -SPI, 0 -I2C, 1 -MSSP(SPI/I2C); EEPROM Data Memory (bytes): 256; I/O Pins: 23; Max. CPU Speed MHz: 40; Operation Voltage Range: 2.5V - 5.5V; Program Memory KBytes: 16; Program Memory KWords: 8; RAM: 768; Timers: 1 - 8-bit, 3 - 16-bit; DatasheetVersion: Rev. C; PackageVersion: C04-052C, 12/2012; PackageReference: SOIC-SO28; PackageDescription: 28-Lead Plastic Small Outline, 17.9 x 7.5 mm Body, 1.27 mm Pitch; Supplier 1: Digi-Key; Supplier Part Number 1: PIC18LF242-I/SO-ND; Supplier 2: Newark; Supplier Part Number 2: 92C5123; Supplier 3: Mouser; Supplier Part Number 3: 579-PIC18LF242-I/SO; Memory Type: Flash; Packing: TUBE; Mounting Technology: Surface Mount; ComponentLink1Description: Datasheet; ComponentLink1URL: http://ww1.microchip.com/downloads/en/DeviceDoc/39564c.pdf; ComponentLink2Description: Package Specification; ComponentLink2URL: http://www.microchip.com/stellent/groups/techpub_sg/documents/packagingspec/en012702.pdf; ComponentLink3Description: URL Link1; ComponentLink3URL: Product URL:http://www.microchip.com/datasheet/PIC18F242
footprint MCHP-SOIC-SO28_N (SOIC, 28-Leads, Body 17.9x7.5mm, Pitch 1.27mm, IPC Medium Density)
footprint MCHP-SOIC-SO28_L (SOIC, 28-Leads, Body 17.9x7.5mm, Pitch 1.27mm, IPC High Density)
footprint MCHP-SOIC-SO28_M (SOIC, 28-Leads, Body 17.9x7.5mm, Pitch 1.27mm, IPC Low Density)
pins: 1 ~{MCLR}/VPP (in), 2 RA0/AN0 (io), 3 RA1/AN1 (io), 4 RA2/AN2/VREF- (io), 5 RA3/AN3/VREF+ (io), 6 RA4/T0CKI (io), 7 RA5/AN4/~{SS}/LVDIN (io), 8 VSS (power) "Ground reference for logic and I/O pins.", 9 OSC1/CLKI (in), 10 RA6/OSC2/CLKO (io), 11 RC0/T1OSO/T1CKI (io), 12 RC1/T1OSI/CCP2 (io), 13 RC2/CCP1 (io), 14 RC3/SCK/SCL (io), 15 RC4/SDI/SDA (io), 16 RC5/SDO (io), 17 RC6/TX/CK (io), 18 RC7/RX/DT (io), 19 VSS (power) "Ground reference for logic and I/O pins.", 20 VDD (power) "Positive supply for logic and I/O pins.", 21 RB0/INT0 (io), 22 RB1/INT1 (io), 23 RB2/INT2 (io), 24 RB3/CCP2 (io), 25 RB4 (io) "Digital I/O. Interrupt-on-change pin.", 26 RB5/PGM (io), 27 RB6/PGC (io), 28 RB7/PGD (io)

## PIC18LF242-I/SP
designator U?
High Performance, Enhanced Flash Microcontroller with 10-Bit A/D, 40 MHz, 23 I/O, -40 to 85 degC, 28-pin SPDIP (SP28), Tube; Manufacturer: Microchip; PartNumber: PIC18LF242-I/SP; # of A/D Channels: 5; Digital Communication: 0 -UART, 1 -A/E/USART, 0 -SPI, 0 -I2C, 1 -MSSP(SPI/I2C); EEPROM Data Memory (bytes): 256; I/O Pins: 23; Max. CPU Speed MHz: 40; Operation Voltage Range: 2.5V - 5.5V; Program Memory KBytes: 16; Program Memory KWords: 8; RAM: 768; Timers: 1 - 8-bit, 3 - 16-bit; DatasheetVersion: Rev. C; PackageVersion: C04-070B, 12/2012; PackageReference: SPDIP-SP28; PackageDescription: 28-Lead Plastic Dual In-Line, 34.86 x 6.79 mm Body, 2.54 mm Pitch; Supplier 1: Digi-Key; Supplier Part Number 1: PIC18LF242-I/SP-ND; Supplier 2: Newark; Supplier Part Number 2: 92C5124; Supplier 3: Mouser; Supplier Part Number 3: 579-PIC18LF242-I/SP; Memory Type: Flash; Packing: TUBE; Mounting Technology: Through Hole; ComponentLink1Description: Datasheet; ComponentLink1URL: http://ww1.microchip.com/downloads/en/DeviceDoc/39564c.pdf; ComponentLink2Description: Package Specification; ComponentLink2URL: http://www.microchip.com/stellent/groups/techpub_sg/documents/packagingspec/en012702.pdf; ComponentLink3Description: URL Link1; ComponentLink3URL: Product URL:http://www.microchip.com/datasheet/PIC18F242
footprint MCHP-SPDIP-SP28 (DIP, 28-Leads, Body 34.86x6.79mm, Pitch 2.54mm)
pins: 1 ~{MCLR}/VPP (in), 2 RA0/AN0 (io), 3 RA1/AN1 (io), 4 RA2/AN2/VREF- (io), 5 RA3/AN3/VREF+ (io), 6 RA4/T0CKI (io), 7 RA5/AN4/~{SS}/LVDIN (io), 8 VSS (power) "Ground reference for logic and I/O pins.", 9 OSC1/CLKI (in), 10 RA6/OSC2/CLKO (io), 11 RC0/T1OSO/T1CKI (io), 12 RC1/T1OSI/CCP2 (io), 13 RC2/CCP1 (io), 14 RC3/SCK/SCL (io), 15 RC4/SDI/SDA (io), 16 RC5/SDO (io), 17 RC6/TX/CK (io), 18 RC7/RX/DT (io), 19 VSS (power) "Ground reference for logic and I/O pins.", 20 VDD (power) "Positive supply for logic and I/O pins.", 21 RB0/INT0 (io), 22 RB1/INT1 (io), 23 RB2/INT2 (io), 24 RB3/CCP2 (io), 25 RB4 (io) "Digital I/O. Interrupt-on-change pin.", 26 RB5/PGM (io), 27 RB6/PGC (io), 28 RB7/PGD (io)

## PIC18LF242T-I/SO
designator U?
High Performance, Enhanced Flash Microcontroller with 10-Bit A/D, 40 MHz, 23 I/O, -40 to 85 degC, 28-pin SOIC (SO28), Tape and Reel; Manufacturer: Microchip; PartNumber: PIC18LF242T-I/SO; # of A/D Channels: 5; Digital Communication: 0 -UART, 1 -A/E/USART, 0 -SPI, 0 -I2C, 1 -MSSP(SPI/I2C); EEPROM Data Memory (bytes): 256; I/O Pins: 23; Max. CPU Speed MHz: 40; Operation Voltage Range: 2.5V - 5.5V; Packing: T/R; Program Memory KBytes: 16; Program Memory KWords: 8; RAM: 768; Timers: 1 - 8-bit, 3 - 16-bit; DatasheetVersion: Rev. C; PackageVersion: C04-052C, 12/2012; PackageReference: SOIC-SO28; PackageDescription: 28-Lead Plastic Small Outline, 17.9 x 7.5 mm Body, 1.27 mm Pitch; Supplier 1: Digi-Key; Supplier Part Number 1: PIC18LF242T-I/SO-ND; Supplier 2: Mouser; Supplier Part Number 2: 579-PIC18LF242T-I/SO; Memory Type: Flash; Mounting Technology: Surface Mount; ComponentLink1Description: Datasheet; ComponentLink1URL: http://ww1.microchip.com/downloads/en/DeviceDoc/39564c.pdf; ComponentLink2Description: Package Specification; ComponentLink2URL: http://www.microchip.com/stellent/groups/techpub_sg/documents/packagingspec/en012702.pdf; ComponentLink3Description: URL Link1; ComponentLink3URL: Product URL:http://www.microchip.com/datasheet/PIC18F242
footprint MCHP-SOIC-SO28_N (SOIC, 28-Leads, Body 17.9x7.5mm, Pitch 1.27mm, IPC Medium Density)
footprint MCHP-SOIC-SO28_L (SOIC, 28-Leads, Body 17.9x7.5mm, Pitch 1.27mm, IPC High Density)
footprint MCHP-SOIC-SO28_M (SOIC, 28-Leads, Body 17.9x7.5mm, Pitch 1.27mm, IPC Low Density)
pins: 1 ~{MCLR}/VPP (in), 2 RA0/AN0 (io), 3 RA1/AN1 (io), 4 RA2/AN2/VREF- (io), 5 RA3/AN3/VREF+ (io), 6 RA4/T0CKI (io), 7 RA5/AN4/~{SS}/LVDIN (io), 8 VSS (power) "Ground reference for logic and I/O pins.", 9 OSC1/CLKI (in), 10 RA6/OSC2/CLKO (io), 11 RC0/T1OSO/T1CKI (io), 12 RC1/T1OSI/CCP2 (io), 13 RC2/CCP1 (io), 14 RC3/SCK/SCL (io), 15 RC4/SDI/SDA (io), 16 RC5/SDO (io), 17 RC6/TX/CK (io), 18 RC7/RX/DT (io), 19 VSS (power) "Ground reference for logic and I/O pins.", 20 VDD (power) "Positive supply for logic and I/O pins.", 21 RB0/INT0 (io), 22 RB1/INT1 (io), 23 RB2/INT2 (io), 24 RB3/CCP2 (io), 25 RB4 (io) "Digital I/O. Interrupt-on-change pin.", 26 RB5/PGM (io), 27 RB6/PGC (io), 28 RB7/PGD (io)

## PIC18LF248-I/SO
designator U?
High-Performance, Enhanced Flash Microcontroller with CAN Module, 40 MHz, 22 I/O, -40 to 85 degC, 28-pin SOIC (SO28), Tube; Manufacturer: Microchip; PartNumber: PIC18LF248-I/SO; # of A/D Channels: 5; Digital Communication: 0 -UART, 1 -A/E/USART, 0 -SPI, 0 -I2C, 1 -MSSP(SPI/I2C); EEPROM Data Memory (bytes): 256; I/O Pins: 22; Max. CPU Speed MHz: 40; Operation Voltage Range: 2V - 5.5V; Program Memory KBytes: 16; Program Memory KWords: 8; RAM: 768; Timers: 1 - 8-bit, 3 - 16-bit, 0 - 32-bit; DatasheetVersion: Rev. E; PackageVersion: C04-052C, 12/2012; PackageReference: SOIC-SO28; PackageDescription: 28-Lead Plastic Small Outline, 17.9 x 7.5 mm Body, 1.27 mm Pitch; Supplier 1: Digi-Key; Supplier Part Number 1: PIC18LF248-I/SO-ND; Supplier 2: Mouser; Supplier Part Number 2: 579-PIC18LF248-I/SO; Memory Type: Flash; Packing: TUBE; Mounting Technology: Surface Mount; ComponentLink1Description: Datasheet; ComponentLink1URL: http://ww1.microchip.com/downloads/en/DeviceDoc/41159e.pdf; ComponentLink2Description: Package Specification; ComponentLink2URL: http://www.microchip.com/stellent/groups/techpub_sg/documents/packagingspec/en012702.pdf; ComponentLink3Description: URL Link1; ComponentLink3URL: Product URL:http://www.microchip.com/datasheet/PIC18F248
footprint MCHP-SOIC-SO28_N (SOIC, 28-Leads, Body 17.9x7.5mm, Pitch 1.27mm, IPC Medium Density)
footprint MCHP-SOIC-SO28_L (SOIC, 28-Leads, Body 17.9x7.5mm, Pitch 1.27mm, IPC High Density)
footprint MCHP-SOIC-SO28_M (SOIC, 28-Leads, Body 17.9x7.5mm, Pitch 1.27mm, IPC Low Density)
pins: 1 ~{MCLR}/VPP (in), 2 RA0/AN0/CVREF (io), 3 RA1/AN1 (io), 4 RA2/AN2/VREF- (io), 5 RA3/AN3/VREF+ (io), 6 RA4/T0CKI (io), 7 RA5/AN4/~{SS}/LVDIN (io), 8 VSS (power) "Ground reference for logic and I/O pins.", 9 OSC1/CLKI (in), 10 RA6/OSC2/CLKO (io), 11 RC0/T1OSO/T1CKI (io), 12 RC1/T1OSI (io), 13 RC2/CCP1 (io), 14 RC3/SCK/SCL (io), 15 RC4/SDI/SDA (io), 16 RC5/SDO (io), 17 RC6/TX/CK (io), 18 RC7/RX/DT (io), 19 VSS (power) "Ground reference for logic and I/O pins.", 20 VDD (power) "Positive supply for logic and I/O pins.", 21 RB0/INT0 (io), 22 RB1/INT1 (io), 23 RB2/CANTX/INT2 (io), 24 RB3/CANRX (io), 25 RB4 (io) "Digital I/O. Interrupt-on-change pin.", 26 RB5/PGM (io), 27 RB6/PGC (io), 28 RB7/PGD (io)

## PIC18LF248-I/SP
designator U?
High-Performance, Enhanced Flash Microcontroller with CAN Module, 40 MHz, 22 I/O, -40 to 85 degC, 28-pin SPDIP (SP28), Tube; Manufacturer: Microchip; PartNumber: PIC18LF248-I/SP; # of A/D Channels: 5; Digital Communication: 0 -UART, 1 -A/E/USART, 0 -SPI, 0 -I2C, 1 -MSSP(SPI/I2C); EEPROM Data Memory (bytes): 256; I/O Pins: 22; Max. CPU Speed MHz: 40; Operation Voltage Range: 2V - 5.5V; Program Memory KBytes: 16; Program Memory KWords: 8; RAM: 768; Timers: 1 - 8-bit, 3 - 16-bit, 0 - 32-bit; DatasheetVersion: Rev. E; PackageVersion: C04-070B, 12/2012; PackageReference: SPDIP-SP28; PackageDescription: 28-Lead Plastic Dual In-Line, 34.86 x 6.79 mm Body, 2.54 mm Pitch; Supplier 1: Digi-Key; Supplier Part Number 1: PIC18LF248-I/SP-ND; Supplier 2: Mouser; Supplier Part Number 2: 579-PIC18LF248-I/SP; Memory Type: Flash; Packing: TUBE; Mounting Technology: Through Hole; ComponentLink1Description: Datasheet; ComponentLink1URL: http://ww1.microchip.com/downloads/en/DeviceDoc/41159e.pdf; ComponentLink2Description: Package Specification; ComponentLink2URL: http://www.microchip.com/stellent/groups/techpub_sg/documents/packagingspec/en012702.pdf; ComponentLink3Description: URL Link1; ComponentLink3URL: Product URL:http://www.microchip.com/datasheet/PIC18F248
footprint MCHP-SPDIP-SP28 (DIP, 28-Leads, Body 34.86x6.79mm, Pitch 2.54mm)
pins: 1 ~{MCLR}/VPP (in), 2 RA0/AN0/CVREF (io), 3 RA1/AN1 (io), 4 RA2/AN2/VREF- (io), 5 RA3/AN3/VREF+ (io), 6 RA4/T0CKI (io), 7 RA5/AN4/~{SS}/LVDIN (io), 8 VSS (power) "Ground reference for logic and I/O pins.", 9 OSC1/CLKI (in), 10 RA6/OSC2/CLKO (io), 11 RC0/T1OSO/T1CKI (io), 12 RC1/T1OSI (io), 13 RC2/CCP1 (io), 14 RC3/SCK/SCL (io), 15 RC4/SDI/SDA (io), 16 RC5/SDO (io), 17 RC6/TX/CK (io), 18 RC7/RX/DT (io), 19 VSS (power) "Ground reference for logic and I/O pins.", 20 VDD (power) "Positive supply for logic and I/O pins.", 21 RB0/INT0 (io), 22 RB1/INT1 (io), 23 RB2/CANTX/INT2 (io), 24 RB3/CANRX (io), 25 RB4 (io) "Digital I/O. Interrupt-on-change pin.", 26 RB5/PGM (io), 27 RB6/PGC (io), 28 RB7/PGD (io)

## PIC18LF252-I/SO
designator U?
High Performance, Enhanced Flash Microcontroller with 10-Bit A/D, 40 MHz, 23 I/O, -40 to 85 degC, 28-pin SOIC (SO28), Tube; Manufacturer: Microchip; PartNumber: PIC18LF252-I/SO; # of A/D Channels: 5; Digital Communication: 0 -UART, 1 -A/E/USART, 0 -SPI, 0 -I2C, 1 -MSSP(SPI/I2C); EEPROM Data Memory (bytes): 256; I/O Pins: 23; Max. CPU Speed MHz: 40; Operation Voltage Range: 2.5V - 5.5V; Program Memory KBytes: 32; Program Memory KWords: 16; RAM: 1536; Timers: 1 - 8-bit, 3 - 16-bit, 0 - 32-bit; DatasheetVersion: Rev. C; PackageVersion: C04-052C, 12/2012; PackageReference: SOIC-SO28; PackageDescription: 28-Lead Plastic Small Outline, 17.9 x 7.5 mm Body, 1.27 mm Pitch; Supplier 1: Digi-Key; Supplier Part Number 1: PIC18LF252-I/SO-ND; Supplier 2: Farnell; Supplier Part Number 2: 9762418; Supplier 3: Farnell; Supplier Part Number 3: 1660066; Supplier 4: Farnell; Supplier Part Number 4: 9762418MPKG; Supplier 5: Newark; Supplier Part Number 5: 85C4730; Supplier 6: Mouser; Supplier Part Number 6: 579-PIC18LF252-I/SO; Memory Type: Flash; Packing: TUBE; Mounting Technology: Surface Mount; ComponentLink1Description: Datasheet; ComponentLink1URL: http://ww1.microchip.com/downloads/en/DeviceDoc/39564c.pdf; ComponentLink2Description: Package Specification; ComponentLink2URL: http://www.microchip.com/stellent/groups/techpub_sg/documents/packagingspec/en012702.pdf; ComponentLink3Description: URL Link1; ComponentLink3URL: Product URL:http://www.microchip.com/datasheet/PIC18F252
footprint MCHP-SOIC-SO28_N (SOIC, 28-Leads, Body 17.9x7.5mm, Pitch 1.27mm, IPC Medium Density)
footprint MCHP-SOIC-SO28_L (SOIC, 28-Leads, Body 17.9x7.5mm, Pitch 1.27mm, IPC High Density)
footprint MCHP-SOIC-SO28_M (SOIC, 28-Leads, Body 17.9x7.5mm, Pitch 1.27mm, IPC Low Density)
pins: 1 ~{MCLR}/VPP (in), 2 RA0/AN0 (io), 3 RA1/AN1 (io), 4 RA2/AN2/VREF- (io), 5 RA3/AN3/VREF+ (io), 6 RA4/T0CKI (io), 7 RA5/AN4/~{SS}/LVDIN (io), 8 VSS (power) "Ground reference for logic and I/O pins.", 9 OSC1/CLKI (in), 10 RA6/OSC2/CLKO (io), 11 RC0/T1OSO/T1CKI (io), 12 RC1/T1OSI/CCP2 (io), 13 RC2/CCP1 (io), 14 RC3/SCK/SCL (io), 15 RC4/SDI/SDA (io), 16 RC5/SDO (io), 17 RC6/TX/CK (io), 18 RC7/RX/DT (io), 19 VSS (power) "Ground reference for logic and I/O pins.", 20 VDD (power) "Positive supply for logic and I/O pins.", 21 RB0/INT0 (io), 22 RB1/INT1 (io), 23 RB2/INT2 (io), 24 RB3/CCP2 (io), 25 RB4 (io) "Digital I/O. Interrupt-on-change pin.", 26 RB5/PGM (io), 27 RB6/PGC (io), 28 RB7/PGD (io)

## PIC18LF252-I/SP
designator U?
High Performance, Enhanced Flash Microcontroller with 10-Bit A/D, 40 MHz, 23 I/O, -40 to 85 degC, 28-pin SPDIP (SP28), Tube; Manufacturer: Microchip; PartNumber: PIC18LF252-I/SP; # of A/D Channels: 5; Digital Communication: 0 -UART, 1 -A/E/USART, 0 -SPI, 0 -I2C, 1 -MSSP(SPI/I2C); EEPROM Data Memory (bytes): 256; I/O Pins: 23; Max. CPU Speed MHz: 40; Operation Voltage Range: 2.5V - 5.5V; Program Memory KBytes: 32; Program Memory KWords: 16; RAM: 1536; Timers: 1 - 8-bit, 3 - 16-bit, 0 - 32-bit; DatasheetVersion: Rev. C; PackageVersion: C04-070B, 12/2012; PackageReference: SPDIP-SP28; PackageDescription: 28-Lead Plastic Dual In-Line, 34.86 x 6.79 mm Body, 2.54 mm Pitch; Supplier 1: Digi-Key; Supplier Part Number 1: PIC18LF252-I/SP-ND; Supplier 2: Farnell; Supplier Part Number 2: 9762426; Supplier 3: Newark; Supplier Part Number 3: 88K1972; Supplier 4: Mouser; Supplier Part Number 4: 579-PIC18LF252-I/SP; Memory Type: Flash; Packing: TUBE; Mounting Technology: Through Hole; ComponentLink1Description: Datasheet; ComponentLink1URL: http://ww1.microchip.com/downloads/en/DeviceDoc/39564c.pdf; ComponentLink2Description: Package Specification; ComponentLink2URL: http://www.microchip.com/stellent/groups/techpub_sg/documents/packagingspec/en012702.pdf; ComponentLink3Description: URL Link1; ComponentLink3URL: Product URL:http://www.microchip.com/datasheet/PIC18F252
footprint MCHP-SPDIP-SP28 (DIP, 28-Leads, Body 34.86x6.79mm, Pitch 2.54mm)
pins: 1 ~{MCLR}/VPP (in), 2 RA0/AN0 (io), 3 RA1/AN1 (io), 4 RA2/AN2/VREF- (io), 5 RA3/AN3/VREF+ (io), 6 RA4/T0CKI (io), 7 RA5/AN4/~{SS}/LVDIN (io), 8 VSS (power) "Ground reference for logic and I/O pins.", 9 OSC1/CLKI (in), 10 RA6/OSC2/CLKO (io), 11 RC0/T1OSO/T1CKI (io), 12 RC1/T1OSI/CCP2 (io), 13 RC2/CCP1 (io), 14 RC3/SCK/SCL (io), 15 RC4/SDI/SDA (io), 16 RC5/SDO (io), 17 RC6/TX/CK (io), 18 RC7/RX/DT (io), 19 VSS (power) "Ground reference for logic and I/O pins.", 20 VDD (power) "Positive supply for logic and I/O pins.", 21 RB0/INT0 (io), 22 RB1/INT1 (io), 23 RB2/INT2 (io), 24 RB3/CCP2 (io), 25 RB4 (io) "Digital I/O. Interrupt-on-change pin.", 26 RB5/PGM (io), 27 RB6/PGC (io), 28 RB7/PGD (io)

## PIC18LF252T-I/SO
designator U?
High Performance, Enhanced Flash Microcontroller with 10-Bit A/D, 40 MHz, 23 I/O, -40 to 85 degC, 28-pin SOIC (SO28), Tape and Reel; Manufacturer: Microchip; PartNumber: PIC18LF252T-I/SO; # of A/D Channels: 5; Digital Communication: 0 -UART, 1 -A/E/USART, 0 -SPI, 0 -I2C, 1 -MSSP(SPI/I2C); EEPROM Data Memory (bytes): 256; I/O Pins: 23; Max. CPU Speed MHz: 40; Operation Voltage Range: 2.5V - 5.5V; Packing: T/R; Program Memory KBytes: 32; Program Memory KWords: 16; RAM: 1536; Timers: 1 - 8-bit, 3 - 16-bit; DatasheetVersion: Rev. C; PackageVersion: C04-052C, 12/2012; PackageReference: SOIC-SO28; PackageDescription: 28-Lead Plastic Small Outline, 17.9 x 7.5 mm Body, 1.27 mm Pitch; Supplier 1: Digi-Key; Supplier Part Number 1: PIC18LF252T-I/SO-ND; Supplier 2: Mouser; Supplier Part Number 2: 579-PIC18LF252T-I/SO; Memory Type: Flash; Mounting Technology: Surface Mount; ComponentLink1Description: Datasheet; ComponentLink1URL: http://ww1.microchip.com/downloads/en/DeviceDoc/39564c.pdf; ComponentLink2Description: Package Specification; ComponentLink2URL: http://www.microchip.com/stellent/groups/techpub_sg/documents/packagingspec/en012702.pdf; ComponentLink3Description: URL Link1; ComponentLink3URL: Product URL:http://www.microchip.com/datasheet/PIC18F252
footprint MCHP-SOIC-SO28_N (SOIC, 28-Leads, Body 17.9x7.5mm, Pitch 1.27mm, IPC Medium Density)
footprint MCHP-SOIC-SO28_L (SOIC, 28-Leads, Body 17.9x7.5mm, Pitch 1.27mm, IPC High Density)
footprint MCHP-SOIC-SO28_M (SOIC, 28-Leads, Body 17.9x7.5mm, Pitch 1.27mm, IPC Low Density)
pins: 1 ~{MCLR}/VPP (in), 2 RA0/AN0 (io), 3 RA1/AN1 (io), 4 RA2/AN2/VREF- (io), 5 RA3/AN3/VREF+ (io), 6 RA4/T0CKI (io), 7 RA5/AN4/~{SS}/LVDIN (io), 8 VSS (power) "Ground reference for logic and I/O pins.", 9 OSC1/CLKI (in), 10 RA6/OSC2/CLKO (io), 11 RC0/T1OSO/T1CKI (io), 12 RC1/T1OSI/CCP2 (io), 13 RC2/CCP1 (io), 14 RC3/SCK/SCL (io), 15 RC4/SDI/SDA (io), 16 RC5/SDO (io), 17 RC6/TX/CK (io), 18 RC7/RX/DT (io), 19 VSS (power) "Ground reference for logic and I/O pins.", 20 VDD (power) "Positive supply for logic and I/O pins.", 21 RB0/INT0 (io), 22 RB1/INT1 (io), 23 RB2/INT2 (io), 24 RB3/CCP2 (io), 25 RB4 (io) "Digital I/O. Interrupt-on-change pin.", 26 RB5/PGM (io), 27 RB6/PGC (io), 28 RB7/PGD (io)

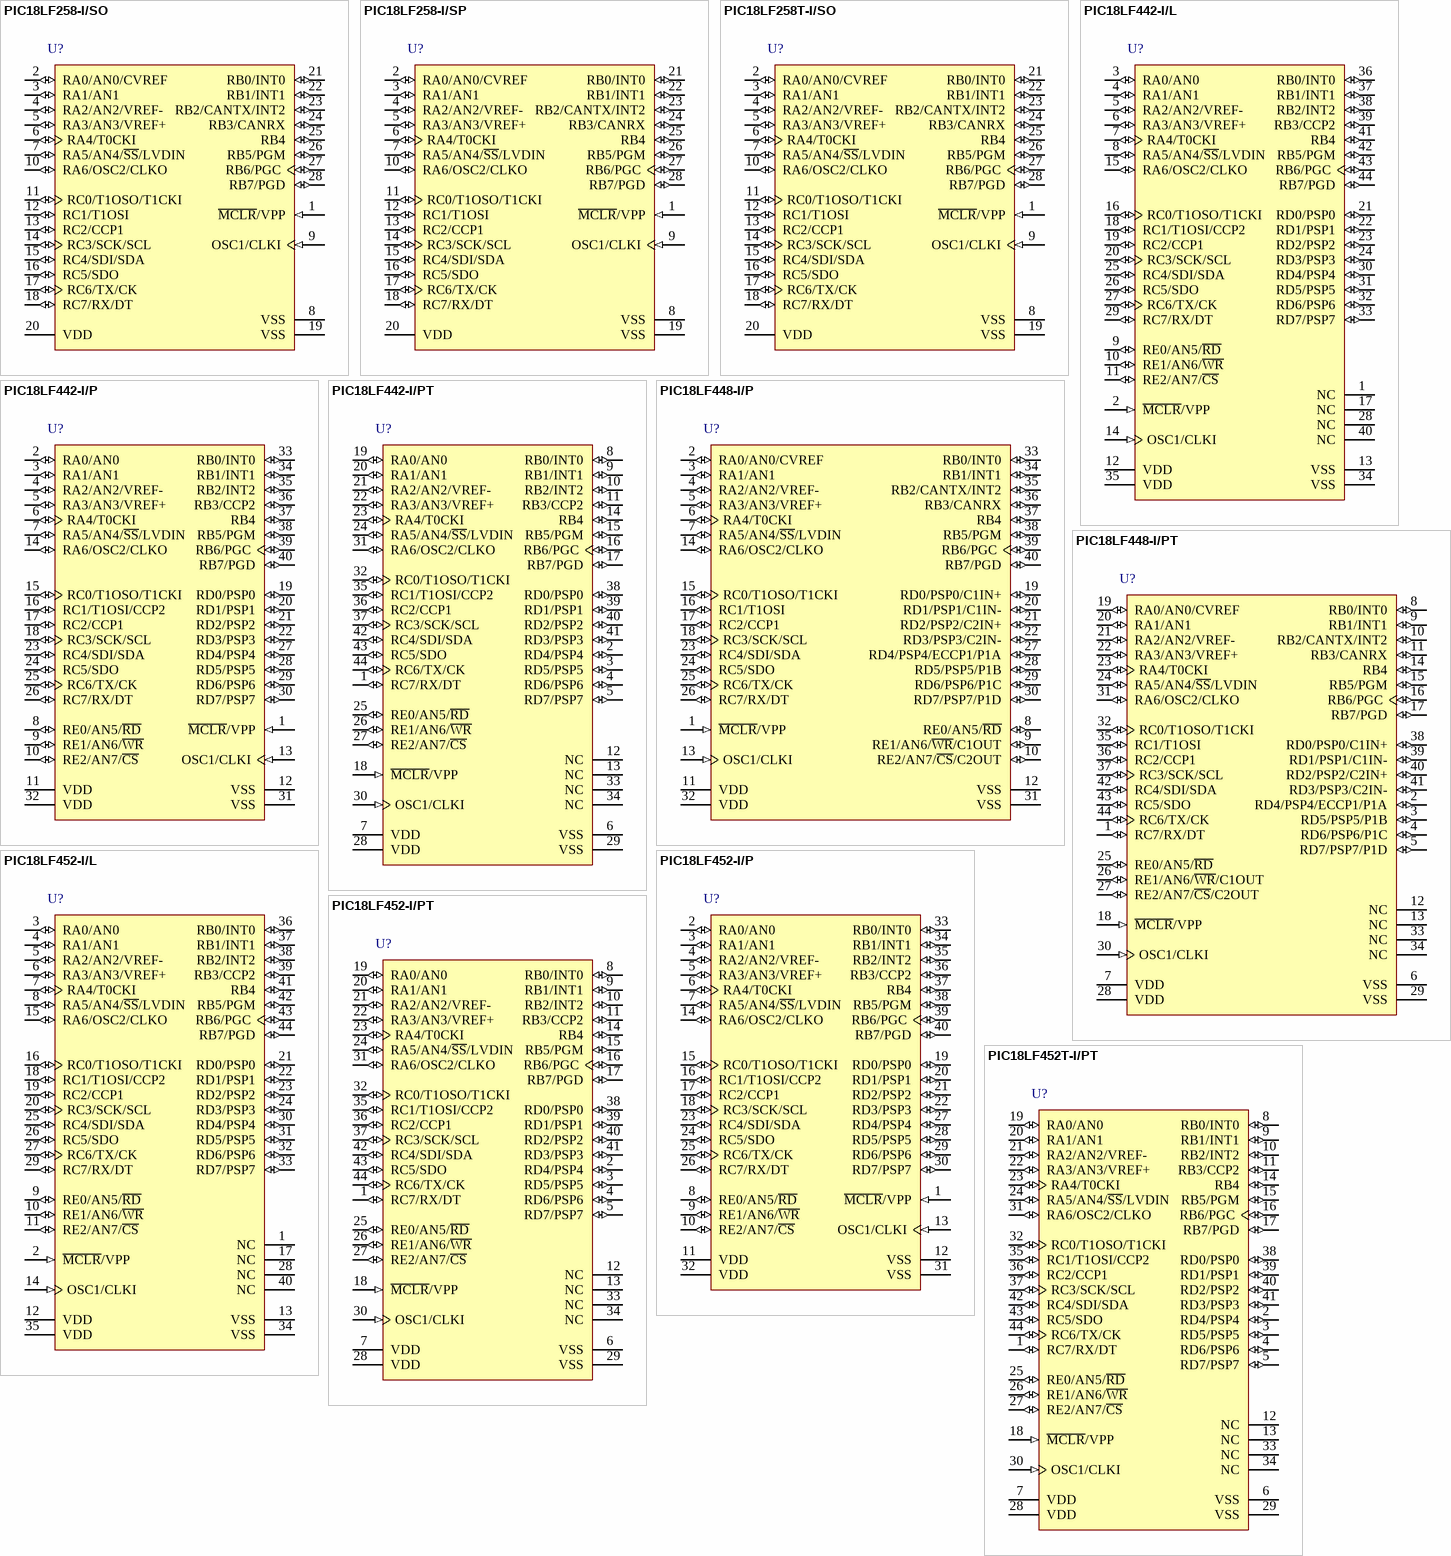
[diagram p185: symbols PIC18LF258-I/SO to PIC18LF452T-I/PT]